# EAGLE library part TSM3442 (library PrjBlinkenlights)
TSM3442 20V N-Channel MOSFET VDS < 20V VGS < ±8V ID < 4A Rθ,JA = 80°C/W VGS,th = 0.65-1.2V SOT-26 Package seems identical to SOT23-6
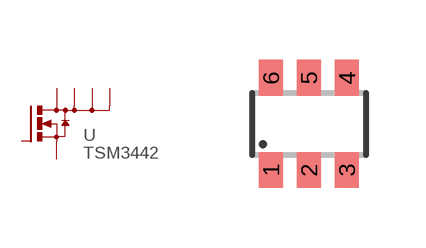
[diagram p1: symbol with the pads of SOT23-6; footprint SOT23-6]

Designator prefix U

## TSM3442  [SOT23-6]
1  D1  pas
2  D2  pas
3  G  pas
4  S  pas
5  D3  pas
6  D4  pas

## Footprint SOT23-6 (pad centres in mm)
Small Outline Transistor 6 lead
smd 0.6 x 0.9: 1 -0.95,-1.15; 2 0,-1.15; 3 0.95,-1.15; 4 0.95,1.15; 5 0,1.15; 6 -0.95,1.15